# Altium footprint library PcbLib1.PcbLib: 1 footprints
Each footprint in its own frame and in the unit in brackets; x right, y up, seen from the top. Pads: shape width x height; smd on the part's side, far side on the other; paste and mask are expansions set on the pad; w line width, h text height; cw(c..) or ccw(c..) is an arc to the next point about the centre after c.
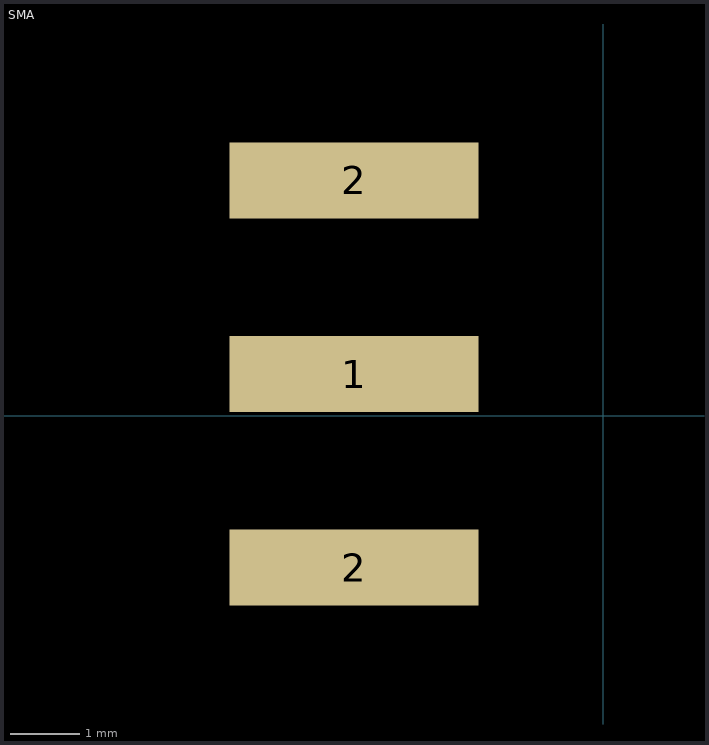
[diagram p0: the footprint, top view; thin cyan lines are the x and y axes]

## SMA [mm]
pads (3):
  rect 3.6x1.1 smd mask+0.05: 1(-3.6,0.6) 2(-3.6,-2.2) 2(-3.6,3.4)
3D body "142-0711-841.STEP": height 3.17, standoff -3.17, extent -5.3,-2.575 8.035,3.775